# EAGLE library part NMOS-1G-1S-4D (library comms)
MOSFET N-CH 30V 8A TSOP-6
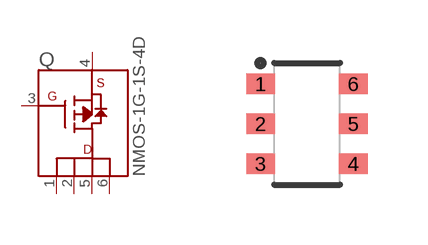
[diagram p11: symbol with the pads of TSOP-6; footprint TSOP-6]

Designator prefix Q

## NMOS-1G-1S-4D_NMOS-6P_TSOP-6 (CONTINUOUS_DRAIN_CURRENT: 8A; FET_TYPE: NMOS; MANUFACTURER: Vishay Siliconix; MANUFACTURER_PN: SI3421DV-T1-GE3; POWER_MAX: 4.2W; RDS_ON_MAX: 19.2 mOhm @ 7A, 10V; VALUE: NMOS; VDS: 30V; VENDOR: Digikey; VENDOR_PN: SI3421DV-T1-GE3CT-ND; VGS_MAX: +-20V)  [TSOP-6]
1  D
2  D
3  G
4  S
5  D
6  D

## Footprint TSOP-6 (pad centres in mm)
smd 0.72 x 0.52: 1 -1.16,1; 2 -1.16,0; 3 -1.16,-1; 4 1.16,-1; 5 1.16,0; 6 1.16,1